# Altium footprint library bpspcb.PcbLib: 17 footprints (part 1 of 2)
Each footprint in its own frame and in the unit in brackets; x right, y up, seen from the top. Pads: shape width x height; smd on the part's side, far side on the other; paste and mask are expansions set on the pad; w line width, h text height; cw(c..) or ccw(c..) is an arc to the next point about the centre after c.
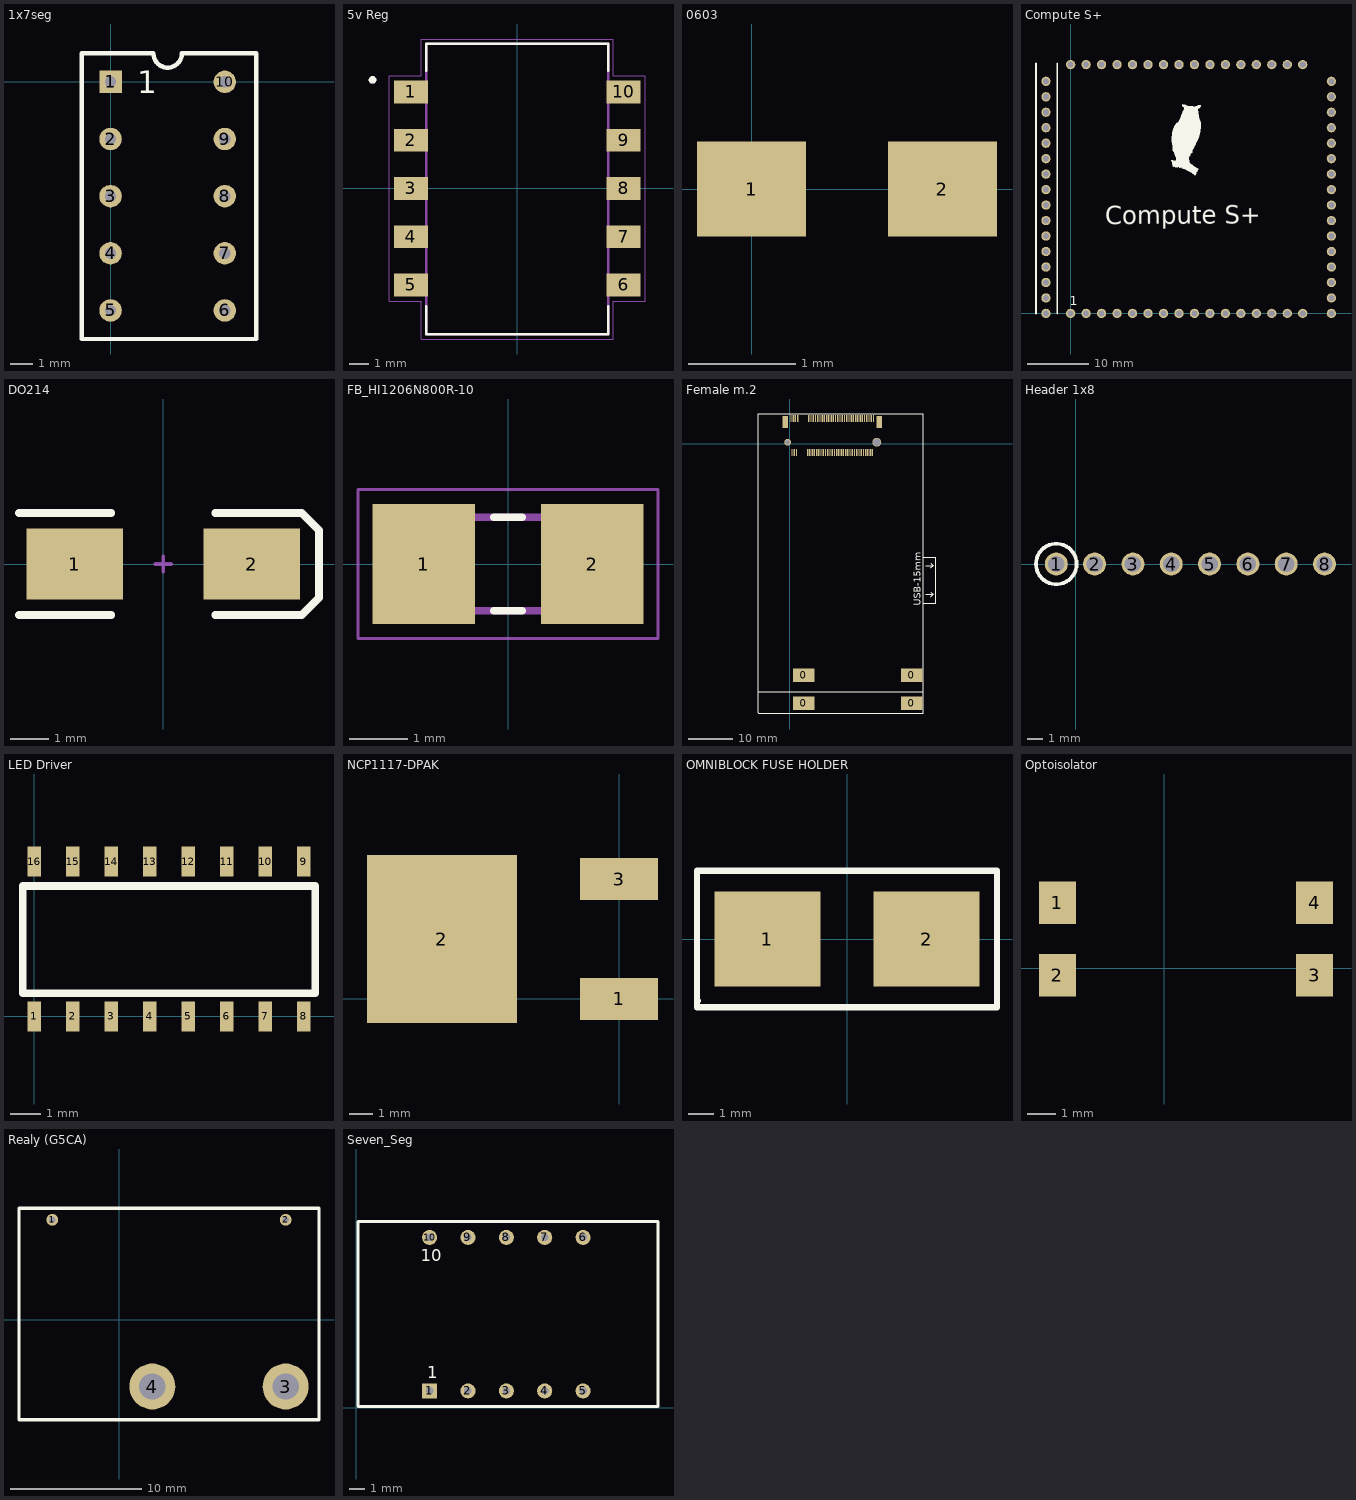
[diagram p0: the footprints below, top view; thin cyan lines are the x and y axes]

## 1x7seg [mm]
pads (10):
  rect 1x1 hole 0.5: 1(0,0)
  round 1 hole 0.5: 2(0,-2.54) 3(0,-5.08) 4(0,-7.62) 5(0,-10.16) 6(5.08,-10.16) 7(5.08,-7.62) 8(5.08,-5.08) 9(5.08,-2.54) 10(5.08,0)
Top Overlay:
  lines w0.2: -1.28,-11.43 6.48,-11.43 6.48,1.27 3.175,1.27 cw(c2.54,1.27) 1.905,1.27 -1.28,1.27 -1.28,-11.43
  text "1" at 1.18,-0.51 h1

## 2x7 seg desplay [mm]

## 5v Reg [mm]
pads (10):
  rect 1.8x1.2 smd: 1(-5.6,5.08) 2(-5.6,2.54) 3(-5.6,0) 4(-5.6,-2.54) 5(-5.6,-5.08) 6(5.6,-5.08) 7(5.6,-2.54) 8(5.6,0) 9(5.6,2.54) 10(5.6,5.08)
Top Overlay:
  circle w0.2: c-7.62,5.715 r0.1
  lines w0.127: -4.8,-6.2 -4.8,-7.68 4.8,-7.68 4.8,-6.2 ; -4.8,6.2 -4.8,7.62 4.8,7.62 4.8,6.2
Mechanical 13:
  circle w0.2: c-7.62,5.715 r0.1
  lines w0.127: -4.8,-7.68 4.8,-7.68 4.8,7.62 -4.8,7.62 -4.8,-7.68
Mechanical 15:
  lines w0.05: -6.75,-5.93 -5.05,-5.93 -5.05,-7.93 5.05,-7.93 5.05,-5.93 6.75,-5.93 6.75,5.93 5.05,5.93 5.05,7.87 -5.05,7.87 -5.05,5.93 -6.75,5.93 -6.75,-5.93

## 0603 [mil] "Oversize 0603 footprint"
pads (2):
  rect 40x35 smd: 1(0,0) 2(70,0)
3D body "0603_RES.stp": height 16.93, standoff -1.18, extent 0.51,-15.74 63.51,15.75

## Compute S+ [mil]
pads (64):
  round 60 hole 39.37: CANH(1000,1607.95) CANL(1100,1607.95) GND(-160,900) GND(100,1607.95) GND(600,0) GND(900,1607.95) GND(1685,600) GND(1685,1400) PA00(-160,1500) PA01(-160,1400) PA02(-160,1300) PA03(-160,1200) PA04(-160,300) PA05(-160,200) PA06(-160,100) PA07(-160,0) PA08(0,0) PA09(100,0) PA10(200,0) PA11(300,0) PA12(1200,0) PA13(1300,0) PA14(1400,0) PA15(1500,0) PA16(1685,0) PA17(1685,100) PA18(1685,200) PA19(1685,300) PA20(1685,800) PA21(1685,900) PA22(1685,1000) PA23(1685,1100) PA24(1685,1200) PA25(1685,1300) PA27(1500,1607.95) PA28(1400,1607.95) PA30(1300,1607.95) PA31(1200,1607.95) PB00(500,1607.95) PB01(400,1607.95) PB02(300,1607.95) PB03(200,1607.95) PB04(-160,1100) PB05(-160,1000) PB06(-160,700) PB07(-160,600) PB08(-160,500) PB09(-160,400) PB10(400,0) PB11(500,0) PB12(800,0) PB13(900,0) PB14(1000,0) PB15(1100,0) PB16(1685,400) PB17(1685,500) PB30(700,1607.95) PB31(600,1607.95) VDD(-160,800) VDD(0,1607.95) VDD(700,0) VDD(800,1607.95) VDD(1685,700) VDD(1685,1500)
Top Overlay:
  drawing of 3 lines, arcs and shapes, not listed
  text "Compute S+" at 222.44,538.19 h196.85
  text "1" at -7.09,51.57 h60
3D body "V2_SP.step": height 549.33, standoff 19.68, extent -261.2,-83.86 1773.8,1726.14

## DO214 [mm] "DO-214-AC/SMA; 2 C-Bend Leads; Body 5.3 x 2.6 mm, inc. leads (LxW)"
height 2.3
pads (2):
  rect 2.5x1.85 smd: 1(-2.3,0) 2(2.3,0)
Top Overlay:
  lines w0.2: -3.75,-1.325 -1.35,-1.325 ; -3.75,1.325 -1.35,1.325 ; 1.35,-1.325 3.6,-1.325 4.05,-0.875 4.05,0.875 3.6,1.325 1.35,1.325
Mechanical 1:
  lines w0.1: -0.2,0 0.2,0 ; 0,-0.2 0,0.2
3D body "Diode SMA.stp": height 2.41, standoff 0, extent -2.74,-1.46 2.54,1.46

## FB_HI1206N800R-10 [mm]
pads (2):
  rect 1.76x2.06 smd: 1(-1.445,0) 2(1.445,0)
Top Overlay:
  lines w0.127: -0.245,-0.8 0.245,-0.8 ; -0.245,0.8 0.245,0.8
Mechanical 13:
  lines w0.127: -1.6,-0.8 1.6,-0.8 1.6,0.8 -1.6,0.8 -1.6,-0.8
Mechanical 15:
  lines w0.05: -2.575,-1.28 2.575,-1.28 2.575,1.28 -2.575,1.28 -2.575,-1.28

## Female m.2 [mm]
pads (75):
  rect 4.8x3 smd: 0(3.142,-58.169) 0(3.142,-51.869) 0(27.342,-58.169) 0(27.342,-51.869)
  rect 0.3x1.5 smd: 1(18.8,5.67) 2(18.55,-1.93) 3(18.3,5.67) 4(18.05,-1.93) 5(17.8,5.67) 6(17.55,-1.93) 7(17.3,5.67) 8(17.05,-1.93) 9(16.8,5.67) 10(16.55,-1.93) 11(16.3,5.67) 12(16.05,-1.93) 13(15.8,5.67) 14(15.55,-1.93) 15(15.3,5.67) 16(15.05,-1.93) 17(14.8,5.67) 18(14.55,-1.93) 19(14.3,5.67) 20(14.05,-1.93) 21(13.8,5.67) 22(13.55,-1.93) 23(13.3,5.67) 24(13.05,-1.93) 25(12.8,5.67) 26(12.55,-1.93) 27(12.3,5.67) 28(12.05,-1.93) 29(11.8,5.67) 30(11.55,-1.93) 31(11.3,5.67) 32(11.05,-1.93) 33(10.8,5.67) 34(10.55,-1.93) 35(10.3,5.67) 36(10.05,-1.93) 37(9.8,5.67) 38(9.55,-1.93) 39(9.3,5.67) 40(9.05,-1.93) 41(8.8,5.67) 42(8.55,-1.93) 43(8.3,5.67) 44(8.05,-1.93) 45(7.8,5.67) 46(7.55,-1.93) 47(7.3,5.67) 48(7.05,-1.93) 49(6.8,5.67) 50(6.55,-1.93) 51(6.3,5.67) 52(6.05,-1.93) 53(5.8,5.67) 54(5.55,-1.93) 55(5.3,5.67) 56(5.05,-1.93) 57(4.8,5.67) 58(4.55,-1.93) 59(4.3,5.67) 60(4.05,-1.93) 61(1.8,5.67) 62(1.55,-1.93) 63(1.3,5.67) 64(1.05,-1.93) 65(0.8,5.67) 66(0.55,-1.93) 67(0.3,5.67)
  rect 1.2x2.75 smd: ""(-1,4.87) ""(20.1,4.87)
  round 1.5 hole 1.1: ""(-0.45,0.345)
  round 2 hole 1.6: ""(19.55,0.345)
Top Layer:
  lines w0.254: 3.142,-51.869 3.26,-51.987
Top Overlay:
  lines w0.254: 29.985,-25.375 32.735,-25.375 32.735,-35.71 30.06,-35.71 ; 30.495,-33.775 32.15,-33.775 ; 30.52,-27.325 32.175,-27.325 ; 31.65,-34.275 32.15,-33.775 ; 31.65,-33.275 32.15,-33.775 ; 31.675,-27.825 32.175,-27.325 ; 31.675,-26.825 32.175,-27.325 ; -7,-55.614 30,-55.614 ; -7,-55.614 -7,-60.335 -6.955,-60.38 -2.234,-60.38 30,-60.38 30,-55.614 ; -7,-55.614 -7,6.685 30,6.685 30,-55.614
  text "USB-15mm" at 29.4,-36.3 h1.52

## Header 1x8 [mm] "0.1in pitch"
pads (8):
  round 1.524 hole 1.09: 1(-1.3,0) 2(1.24,0) 3(3.78,0) 4(6.32,0) 5(8.86,0) 6(11.4,0) 7(13.94,0) 8(16.48,0)
Top Overlay:
  circle w0.254: c-1.3,0 r1.345

## LED Driver [mm]
pads (16):
  rect 0.45x1 smd: 1(0,0) 2(1.27,0) 3(2.54,0) 4(3.81,0) 5(5.08,0) 6(6.35,0) 7(7.62,0) 8(8.89,0) 9(8.89,5.107) 10(7.62,5.107) 11(6.35,5.107) 12(5.08,5.107) 13(3.81,5.107) 14(2.54,5.107) 15(1.27,5.107) 16(0,5.107)
Top Overlay:
  lines w0.254: -0.381,0.762 -0.381,4.3 9.271,4.3 9.271,0.762 -0.381,0.762
  text "." at 0,1.15 h1.52

## NCP1117-DPAK [mil]
pads (3):
  rect 130x70 smd: 1(0,0) 3(0,200)
  rect 250x280 smd: 2(-295.28,100)

## OMNIBLOCK FUSE HOLDER [mm]
pads (2):
  rect 4.24x3.81 smd: 1(-3.185,0) 2(3.185,0)
Top Overlay:
  lines w0.254: -6,-2.45 -5.975,-2.475 ; -6,-2.725 6,-2.725 6,2.725 -6,2.725 -6,-2.725
3D body "OMNI_BLOK_FUSE.step": height 3.81, standoff 0, extent -4.915,-2.515 4.915,2.515

## Optoisolator [mm]
pads (4):
  rect 1.3x1.5 smd: 1(-3.74,2.3) 2(-3.74,-0.24) 3(5.26,-0.24) 4(5.26,2.3)

## Realy (G5CA) [mm]
pads (4):
  round 0.9 hole 0.5: 1(-5.08,7.62) 2(12.7,7.62)
  round 3.5 hole 2: 3(12.7,-5.08) 4(2.54,-5.08)
Top Overlay:
  lines w0.254: -7.62,-7.62 -7.62,8.509 15.24,8.509 15.24,-7.62 -7.62,-7.62

## Seven seg 1 [mm]

## Seven_Seg [mm]
pads (10):
  rect 1x1 hole 0.5: 1(4.84,1.1)
  round 1 hole 0.5: 2(7.38,1.1) 3(9.92,1.1) 4(12.46,1.1) 5(15,1.1) 6(15,11.26) 7(12.46,11.26) 8(9.92,11.26) 9(7.38,11.26) 10(4.84,11.26)
Top Overlay:
  lines w0.2: 0.1,0.06 0.1,5.785 0.1,12.32 19.96,12.32 19.96,0.06 0.1,0.06
  text "10" at 4.24,9.67 h0.8
  text "1" at 4.67,1.94 h0.8